# Altium schematic symbol library Capacitors-1206-Ceramic.SchLib: 12 symbols
Pins are listed as number, name and electrical type; pins without a type are passive.

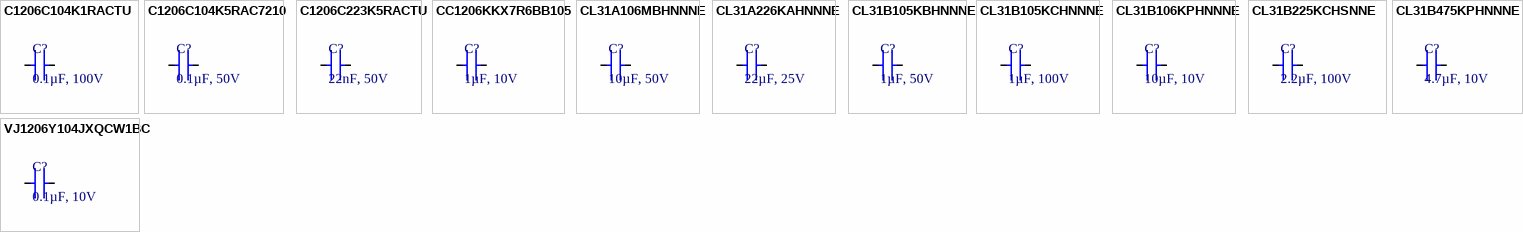
[diagram p0: symbols C1206C104K1RACTU to VJ1206Y104JXQCW1BC]

## C1206C104K1RACTU
designator C?, comment 0.1µF, 100V
CAP CER 0.1UF 100V X7R 1206; Manufacturer: KEMET; Manufacturer Part Number: C1206C104K1RACTU; Dielectric Material: Ceramic; Value: 100nF; Multilayer: Yes; Tolerance  (fill in as +-): 10%; Supplier: Digikey; Supplier Part Number: 399-C1206C104K1RACTUCT-ND; RoHS: Yes; Category: Ceramic Capacitors; Stock: 105073; Pricing: 1=0.23, 10=0.135, 50=0.0958, 100=0.0836, 500=0.0629, 1000=0.05646 (USD); Mounting Technology: Surface Mount; Pins: 2; Package Shape: Rectangular; Case/Package: 1206; Terminal Finish: Nickel; Min Operating Temperature: -55°C; Max Operating Temperature: 125°C; JESD-609 Code: e3; Capacitor Type: Ceramic; Package Style: SMTMeter; Packaging: Tape and Reel; Tolerance (fill in as +-): 10%; Rated DC Voltage (URdc): 100V; Temperature Characteristics Code: X7R; Termination: Wraparound; Length: 3.2mm; Width: 1.6mm; Height: 0.78mm; Reach SVHC Compliant: Yes; RoHS Compliant: Yes; ComponentLink1URL: https://datasheet.ciiva.com:443/pdfs/VipMasterIC/IC/KEME/KEME-S-A0008991654/KEME-S-A0008991654-1.pdf?src-supplier=IHS+Markit; ComponentLink1Description: https://datasheet.ciiva.com:443/pdfs/VipMasterIC/IC/KEME/KEME-S-A0008991654/KEME-S-A0008991654-1.pdf?src-supplier=IHS+Markit; ComponentLink2URL: https://datasheet.ciiva.com/18446/70095383-18446742.pdf?src-supplier=Allied+Electronics; ComponentLink2Description: https://datasheet.ciiva.com/18446/70095383-18446742.pdf?src-supplier=Allied+Electronics; ComponentLink3URL: https://datasheet.ciiva.com/14585/70095383-14585512.pdf?src-supplier=Allied+Electronics; ComponentLink3Description: https://datasheet.ciiva.com/14585/70095383-14585512.pdf?src-supplier=Allied+Electronics
footprint CAP-CER-1206
pins: 1, 2

## C1206C104K5RAC7210
designator C?, comment 0.1µF, 50V
CAP CER 0.1UF 50V X7R 1206; Manufacturer: KEMET; Manufacturer Part Number: C1206C104K5RAC7210; Dielectric Material: Ceramic; Value: 100nF; Multilayer: Yes; Tolerance  (fill in as +-): 10%; Supplier: Digikey; Supplier Part Number: 399-C1206C104K5RAC7210CT-ND; RoHS: Yes; Category: Ceramic Capacitors; Stock: 447868; Pricing: 1=0.1, 10=0.055, 50=0.0382, 100=0.0329, 500=0.02384, 1000=0.02105, 2500=0.01809, 5000=0.01629 (USD); Mounting Technology: Surface Mount; Pins: 2; Package Shape: Rectangular; Case/Package: 1206; Terminal Finish: Nickel; Min Operating Temperature: -55°C; Max Operating Temperature: 125°C; JESD-609 Code: e3; Capacitor Type: Ceramic; Package Style: SMTMeter; Packaging: Tape and Reel; Tolerance (fill in as +-): 10%; Rated DC Voltage (URdc): 50V; Temperature Characteristics Code: X7R; Termination: Wraparound; Length: 3.2mm; Width: 1.6mm; Height: 0.78mm; Reach SVHC Compliant: Yes; RoHS Compliant: Yes; ComponentLink1URL: https://datasheet.ciiva.com:443/pdfs/VipMasterIC/IC/KEME/KEME-S-A0008991654/KEME-S-A0008991654-1.pdf?src-supplier=IHS+Markit; ComponentLink1Description: https://datasheet.ciiva.com:443/pdfs/VipMasterIC/IC/KEME/KEME-S-A0008991654/KEME-S-A0008991654-1.pdf?src-supplier=IHS+Markit; ComponentLink2URL: https://datasheet.ciiva.com/18194/getdatasheetpartid-94372-18194154.pdf?src-supplier=Verical; ComponentLink2Description: https://datasheet.ciiva.com/18194/getdatasheetpartid-94372-18194154.pdf?src-supplier=Verical
footprint CAP-CER-1206
pins: 1, 2

## C1206C223K5RACTU
designator C?, comment 22nF, 50V
CAP CER 0.022UF 50V X7R 1206; Manufacturer: KEMET; Manufacturer Part Number: C1206C223K5RACTU; Dielectric Material: Ceramic; Multilayer: Yes; Tolerance  (fill in as +-): 10%; Supplier: Digikey; Supplier Part Number: 399-C1206C223K5RAC7800CT-ND; RoHS: Yes; Category: Ceramic Capacitors; Mounting Technology: Surface Mount; Pins: 2; Package Shape: Rectangular; Case/Package: 1206; Terminal Finish: Nickel; Min Operating Temperature: -55°C; Max Operating Temperature: 125°C; JESD-609 Code: e3; Value: 22nF; Capacitor Type: Ceramic; Package Style: SMTMeter; Packaging: Tape and Reel; Tolerance (fill in as +-): 10%; Rated DC Voltage (URdc): 50V; Temperature Characteristics Code: X7R; Termination: Wraparound; Length: 3.2mm; Width: 1.6mm; Height: 0.78mm; Reach SVHC Compliant: Yes; RoHS Compliant: Yes; ComponentLink1URL: https://datasheet.ciiva.com:443/pdfs/VipMasterIC/IC/KEME/KEME-S-A0008991654/KEME-S-A0008991654-1.pdf?src-supplier=IHS+Markit; ComponentLink1Description: https://datasheet.ciiva.com:443/pdfs/VipMasterIC/IC/KEME/KEME-S-A0008991654/KEME-S-A0008991654-1.pdf?src-supplier=IHS+Markit; ComponentLink2URL: https://datasheet.ciiva.com/7729/1851736-7729867.pdf?src-supplier=Element14; ComponentLink2Description: https://datasheet.ciiva.com/7729/1851736-7729867.pdf?src-supplier=Element14; ComponentLink3URL: https://datasheet.ciiva.com/28693/1851736-28693029.pdf?src-supplier=Element14; ComponentLink3Description: https://datasheet.ciiva.com/28693/1851736-28693029.pdf?src-supplier=Element14; ComponentLink4URL: https://datasheet.ciiva.com/6074/kem-c1002-x7r-smd-6074669.pdf?src-supplier=Farnell; ComponentLink4Description: https://datasheet.ciiva.com/6074/kem-c1002-x7r-smd-6074669.pdf?src-supplier=Farnell
footprint CAP-CER-1206
pins: 1, 2

## CC1206KKX7R6BB105
designator C?, comment 1µF, 10V
CAP CER 1UF 10V X7R 1206; Manufacturer: Yageo; Manufacturer Part Number: CC1206KKX7R6BB105; Dielectric Material: Ceramic; Multilayer: Yes; Tolerance  (fill in as +-): 10%; Supplier: Digikey; Supplier Part Number: 311-1951-1-ND; RoHS: Yes; Category: Ceramic Capacitors; Stock: 19006; Pricing: 1=0.23, 10=0.151, 50=0.1064, 100=0.0858, 500=0.06378, 1000=0.05581 (USD); Mounting Technology: Surface Mount; Pins: 2; Package Shape: Rectangular; Case/Package: 1206; Terminal Finish: Nickel; Min Operating Temperature: -55°C; Max Operating Temperature: 125°C; JESD-609 Code: e3; Value: 1uF; Capacitor Type: Ceramic; Package Style: SMTMeter; Packaging: Tape and Reel; Tolerance (fill in as +-): 10%; Rated DC Voltage (URdc): 10V; Temperature Characteristics Code: X7R; Termination: Wraparound; Length: 3.2mm; Width: 1.6mm; Height: 1.15mm; Reach SVHC Compliant: Yes; RoHS Compliant: Yes; ComponentLink1URL: https://datasheet.ciiva.com:443/pdfs/VipMasterIC/IC/YAGO/YAGO-S-A0003557223/YAGO-S-A0003557223-1.pdf?src-supplier=IHS+Markit; ComponentLink1Description: https://datasheet.ciiva.com:443/pdfs/VipMasterIC/IC/YAGO/YAGO-S-A0003557223/YAGO-S-A0003557223-1.pdf?src-supplier=IHS+Markit; ComponentLink2URL: https://datasheet.ciiva.com/26863/getdatasheetpartid-408469-26863081.pdf?src-supplier=Verical; ComponentLink2Description: https://datasheet.ciiva.com/26863/getdatasheetpartid-408469-26863081.pdf?src-supplier=Verical; ComponentLink3URL: https://datasheet.ciiva.com/11466/upy-gphc-x7r-6-3v-to-50v-8-11466566.pdf?src-supplier=Avnet; ComponentLink3Description: https://datasheet.ciiva.com/11466/upy-gphc-x7r-6-3v-to-50v-8-11466566.pdf?src-supplier=Avnet
footprint CAP-CER-1206
pins: 1, 2

## CL31A106MBHNNNE
designator C?, comment 10µF, 50V
CAP CER 10UF 50V X5R 1206; Manufacturer: Samsung; Manufacturer Part Number: CL31A106MBHNNNE; Dielectric Material: Ceramic; Multilayer: Yes; Tolerance  (fill in as +-): 20%; Supplier: Digikey; Supplier Part Number: 1276-6736-1-ND; RoHS: Yes; Category: Ceramic Capacitors; Mounting Technology: Surface Mount; Pins: 2; Package Shape: Rectangular; Case/Package: 1206; Terminal Finish: Nickel; Min Operating Temperature: -55°C; Max Operating Temperature: 85°C; JESD-609 Code: e3; Value: 10uF; Capacitor Type: Ceramic; Packaging: Tape and Reel; Tolerance (fill in as +-): 20%; Rated DC Voltage (URdc): 50V; Temperature Characteristics Code: X5R; Termination: Wraparound; Reach SVHC Compliant: Yes; RoHS Compliant: Yes; ComponentLink1URL: https://datasheet.ciiva.com:443/pdfs/VipMasterIC/IC/SEMS/SEMS-S-A0008524842/SEMS-S-A0008524608-1.pdf?src-supplier=IHS+Markit; ComponentLink1Description: https://datasheet.ciiva.com:443/pdfs/VipMasterIC/IC/SEMS/SEMS-S-A0008524842/SEMS-S-A0008524608-1.pdf?src-supplier=IHS+Markit; ComponentLink2URL: http://www.samsungsem.com/kr/support/product-search/mlcc/CL31A106MBHNNNE.jsp?src-supplier=Digikey; ComponentLink2Description: http://www.samsungsem.com/kr/support/product-search/mlcc/CL31A106MBHNNNE.jsp?src-supplier=Digikey; ComponentLink3URL: https://datasheet.octopart.com/CL31A106MBHNNNE-Samsung-Electro-Mechanics-datasheet-149066821.pdf?src-supplier=Future+Electronics; ComponentLink3Description: https://datasheet.octopart.com/CL31A106MBHNNNE-Samsung-Electro-Mechanics-datasheet-149066821.pdf?src-supplier=Future+Electronics
footprint CAP-CER-1206
pins: 1, 2

## CL31A226KAHNNNE
designator C?, comment 22µF, 25V
CAP CER 22UF 25V X5R 1206; Manufacturer: Samsung; Manufacturer Part Number: CL31A226KAHNNNE; Dielectric Material: Ceramic; Multilayer: Yes; Tolerance  (fill in as +-): 10%; Supplier: Digikey; Supplier Part Number: 1276-3047-1-ND; RoHS: Yes; Category: Ceramic Capacitors; Stock: 1049305; Pricing: 1=0.23, 10=0.093, 50=0.08, 100=0.0672, 500=0.0644, 1000=0.06218 (USD); Mounting Technology: Surface Mount; Pins: 2; Package Shape: Rectangular; Case/Package: 1206; Terminal Finish: Nickel; Min Operating Temperature: -55°C; Max Operating Temperature: 85°C; JESD-609 Code: e3; Value: 22uF; Capacitor Type: Ceramic; Package Style: SMTMeter; Packaging: Tape and Reel; Tolerance (fill in as +-): 10%; Rated DC Voltage (URdc): 25V; Temperature Characteristics Code: X5R; Termination: Wraparound; Length: 3.2mm; Width: 1.6mm; Height: 1.8mm; Reach SVHC Compliant: Yes; RoHS Compliant: Yes; ComponentLink1URL: https://datasheet.ciiva.com:443/pdfs/VipMasterIC/IC/SEMS/SEMS-S-A0008384515/SEMS-S-A0008873224-1.pdf?src-supplier=IHS+Markit; ComponentLink1Description: https://datasheet.ciiva.com:443/pdfs/VipMasterIC/IC/SEMS/SEMS-S-A0008384515/SEMS-S-A0008873224-1.pdf?src-supplier=IHS+Markit; ComponentLink2URL: https://datasheet.ciiva.com/25766/cl31a226kahnnne-25766608.pdf?src-supplier=Digikey; ComponentLink2Description: https://datasheet.ciiva.com/25766/cl31a226kahnnne-25766608.pdf?src-supplier=Digikey; ComponentLink3URL: https://datasheet.ciiva.com/16437/cl31a226kahnnne-16437213.pdf?src-supplier=Future+Electronics; ComponentLink3Description: https://datasheet.ciiva.com/16437/cl31a226kahnnne-16437213.pdf?src-supplier=Future+Electronics; ComponentLink4URL: https://datasheet.ciiva.com/26838/getdatasheetpartid-359658-26838860.pdf?src-supplier=Verical; ComponentLink4Description: https://datasheet.ciiva.com/26838/getdatasheetpartid-359658-26838860.pdf?src-supplier=Verical; ComponentLink5URL: https://datasheet.ciiva.com/29201/452249-da-01-en-vs-kondensator-1206-29201336.pdf?src-supplier=Conrad; ComponentLink5Description: https://datasheet.ciiva.com/29201/452249-da-01-en-vs-kondensator-1206-29201336.pdf?src-supplier=Conrad
footprint CAP-CER-1206
pins: 1, 2

## CL31B105KBHNNNE
designator C?, comment 1µF, 50V
CAP CER 1UF 50V X7R 1206; Manufacturer: Samsung; Manufacturer Part Number: CL31B105KBHNNNE; Dielectric Material: Ceramic; Multilayer: Yes; Tolerance  (fill in as +-): 10%; Supplier: Digikey; Supplier Part Number: 1276-1068-1-ND; RoHS: Yes; Category: Ceramic Capacitors; Stock: 87983; Pricing: 1=0.13, 10=0.074, 100=0.045, 1000=0.03005 (USD); Mounting Technology: Surface Mount; Pins: 2; Package Shape: Rectangular; Case/Package: 1206; Terminal Finish: Nickel; Min Operating Temperature: -55°C; Max Operating Temperature: 125°C; JESD-609 Code: e3; Value: 1uF; Capacitor Type: Ceramic; Package Style: SMTMeter; Packaging: Tape and Reel; Tolerance (fill in as +-): 10%; Rated DC Voltage (URdc): 50V; Temperature Characteristics Code: X7R; Termination: Wraparound; Length: 3.2mm; Width: 1.6mm; Height: 1.8mm; Reach SVHC Compliant: Yes; RoHS Compliant: Yes; ComponentLink1URL: https://datasheet.ciiva.com:443/pdfs/VipMasterIC/IC/SEMS/SEMS-S-A0008526420/SEMS-S-A0008525247-1.pdf?src-supplier=IHS+Markit; ComponentLink1Description: https://datasheet.ciiva.com:443/pdfs/VipMasterIC/IC/SEMS/SEMS-S-A0008526420/SEMS-S-A0008525247-1.pdf?src-supplier=IHS+Markit; ComponentLink2URL: https://datasheet.ciiva.com/25729/cl31b105kbhnnne-25729445.pdf?src-supplier=Digikey; ComponentLink2Description: https://datasheet.ciiva.com/25729/cl31b105kbhnnne-25729445.pdf?src-supplier=Digikey; ComponentLink3URL: https://datasheet.ciiva.com/16330/cl31b105kbhnnne-16330112.pdf?src-supplier=Future+Electronics; ComponentLink3Description: https://datasheet.ciiva.com/16330/cl31b105kbhnnne-16330112.pdf?src-supplier=Future+Electronics
footprint CAP-CER-1206
pins: 1, 2

## CL31B105KCHNNNE
designator C?, comment 1µF, 100V
CAP CER 1UF 100V X7R 1206; Manufacturer: Samsung; Manufacturer Part Number: CL31B105KCHNNNE; Dielectric Material: Ceramic; Multilayer: Yes; Tolerance  (fill in as +-): 10%; Supplier: Digikey; Supplier Part Number: 1276-1838-1-ND; RoHS: Yes; Category: Ceramic Capacitors; Stock: 385884; Pricing: 1=0.16, 10=0.091, 50=0.0634, 100=0.055, 500=0.04066, 1000=0.03621 (USD); Mounting Technology: Surface Mount; Pins: 2; Package Shape: Rectangular; Case/Package: 1206; Terminal Finish: Nickel; Min Operating Temperature: -55°C; Max Operating Temperature: 125°C; JESD-609 Code: e3; Value: 1uF; Capacitor Type: Ceramic; Package Style: SMTMeter; Packaging: Tape and Reel; Tolerance (fill in as +-): 10%; Rated DC Voltage (URdc): 100V; Temperature Characteristics Code: X7R; Termination: Wraparound; Length: 3.2mm; Width: 1.6mm; Height: 1.6mm; Reach SVHC Compliant: Yes; RoHS Compliant: Yes; ComponentLink1URL: https://datasheet.ciiva.com:443/pdfs/VipMasterIC/IC/SEMS/SEMS-S-A0008524868/SEMS-S-A0008525032-1.pdf?src-supplier=IHS+Markit; ComponentLink1Description: https://datasheet.ciiva.com:443/pdfs/VipMasterIC/IC/SEMS/SEMS-S-A0008524868/SEMS-S-A0008525032-1.pdf?src-supplier=IHS+Markit; ComponentLink2URL: https://datasheet.ciiva.com/25711/cl31b105kchnnne-25711248.pdf?src-supplier=Digikey; ComponentLink2Description: https://datasheet.ciiva.com/25711/cl31b105kchnnne-25711248.pdf?src-supplier=Digikey; ComponentLink3URL: https://datasheet.ciiva.com/16437/clseries-16437207.pdf?src-supplier=Future+Electronics; ComponentLink3Description: https://datasheet.ciiva.com/16437/clseries-16437207.pdf?src-supplier=Future+Electronics
footprint CAP-CER-1206
pins: 1, 2

## CL31B106KPHNNNE
designator C?, comment 10µF, 10V
CAP CER 10UF 10V X7R 1206; Manufacturer: Samsung; Manufacturer Part Number: CL31B106KPHNNNE; Dielectric Material: Ceramic; Multilayer: Yes; Tolerance  (fill in as +-): 10%; Supplier: Digikey; Supplier Part Number: 1276-1311-1-ND; RoHS: Yes; Category: Ceramic Capacitors; Stock: 204329; Pricing: 1=0.22, 10=0.126, 50=0.0888, 100=0.0773, 500=0.05798, 1000=0.05196 (USD); Mounting Technology: Surface Mount; Pins: 2; Package Shape: Rectangular; Case/Package: 1206; Terminal Finish: Nickel; Min Operating Temperature: -55°C; Max Operating Temperature: 125°C; JESD-609 Code: e3; Value: 10uF; Capacitor Type: Ceramic; Package Style: SMTMeter; Packaging: Tape and Reel; Tolerance (fill in as +-): 10%; Rated DC Voltage (URdc): 10V; Temperature Characteristics Code: X7R; Termination: Wraparound; Length: 3.2mm; Width: 1.6mm; Height: 1.8mm; Reach SVHC Compliant: Yes; RoHS Compliant: Yes; ComponentLink1URL: https://datasheet.ciiva.com:443/pdfs/VipMasterIC/IC/SEMS/SEMS-S-A0008524842/SEMS-S-A0008524858-1.pdf?src-supplier=IHS+Markit; ComponentLink1Description: https://datasheet.ciiva.com:443/pdfs/VipMasterIC/IC/SEMS/SEMS-S-A0008524842/SEMS-S-A0008524858-1.pdf?src-supplier=IHS+Markit; ComponentLink2URL: https://datasheet.ciiva.com/25795/cl31b106kphnnne-25795251.pdf?src-supplier=Digikey; ComponentLink2Description: https://datasheet.ciiva.com/25795/cl31b106kphnnne-25795251.pdf?src-supplier=Digikey; ComponentLink3URL: https://datasheet.ciiva.com/26946/getdatasheetpartid-359660-26946996.pdf?src-supplier=Verical; ComponentLink3Description: https://datasheet.ciiva.com/26946/getdatasheetpartid-359660-26946996.pdf?src-supplier=Verical
footprint CAP-CER-1206
pins: 1, 2

## CL31B225KCHSNNE
designator C?, comment 2.2µF, 100V
CAP CER 2.2UF 100V X7R 1206; Manufacturer: Samsung; Manufacturer Part Number: CL31B225KCHSNNE; Dielectric Material: Ceramic; Multilayer: Yes; Tolerance  (fill in as +-): 10%; Supplier: Digikey; Supplier Part Number: 1276-3138-1-ND; RoHS: Yes; Category: Ceramic Capacitors; Stock: 134523; Pricing: 1=0.48, 10=0.287, 50=0.2088, 100=0.1845, 500=0.14336, 1000=0.1305 (USD); Mounting Technology: Surface Mount; Pins: 2; Package Shape: Rectangular; Case/Package: 1206; Terminal Finish: Nickel; Min Operating Temperature: -55°C; Max Operating Temperature: 125°C; JESD-609 Code: e3; Value: 2.2uF; Capacitor Type: Ceramic; Packaging: Tape and Reel; Tolerance (fill in as +-): 10%; Rated DC Voltage (URdc): 100V; Temperature Characteristics Code: X7R; Termination: Wraparound; Reach SVHC Compliant: Yes; RoHS Compliant: Yes; ComponentLink1URL: https://datasheet.ciiva.com:443/pdfs/VipMasterIC/IC/SEMS/SEMS-S-A0008525088/SEMS-S-A0008525193-1.pdf?src-supplier=IHS+Markit; ComponentLink1Description: https://datasheet.ciiva.com:443/pdfs/VipMasterIC/IC/SEMS/SEMS-S-A0008525088/SEMS-S-A0008525193-1.pdf?src-supplier=IHS+Markit; ComponentLink2URL: https://datasheet.ciiva.com/25711/cl31b225kchsnne-25711499.pdf?src-supplier=Digikey; ComponentLink2Description: https://datasheet.ciiva.com/25711/cl31b225kchsnne-25711499.pdf?src-supplier=Digikey; ComponentLink3URL: https://datasheet.ciiva.com/29200/453036-da-01-en-vs-kondensator-1206-29200657.pdf?src-supplier=Conrad; ComponentLink3Description: https://datasheet.ciiva.com/29200/453036-da-01-en-vs-kondensator-1206-29200657.pdf?src-supplier=Conrad
footprint CAP-CER-1206
pins: 1, 2

## CL31B475KPHNNNE
designator C?, comment 4.7µF, 10V
CAP CER 4.7UF 10V X7R 1206; Manufacturer: Samsung; Manufacturer Part Number: CL31B475KPHNNNE; Dielectric Material: Ceramic; Multilayer: Yes; Tolerance  (fill in as +-): 10%; Supplier: Digikey; Supplier Part Number: 1276-1133-1-ND; RoHS: Yes; Category: Ceramic Capacitors; Stock: 154674; Pricing: 1=0.19, 10=0.107, 50=0.0754, 100=0.0655, 500=0.04882, 1000=0.04361 (USD); Mounting Technology: Surface Mount; Pins: 2; Package Shape: Rectangular; Case/Package: 1206; Terminal Finish: Nickel; Min Operating Temperature: -55°C; Max Operating Temperature: 125°C; JESD-609 Code: e3; Value: 4.7uF; Capacitor Type: Ceramic; Package Style: SMTMeter; Packaging: Tape and Reel; Tolerance (fill in as +-): 10%; Rated DC Voltage (URdc): 10V; Temperature Characteristics Code: X7R; Termination: Wraparound; Length: 3.2mm; Width: 1.6mm; Height: 1.8mm; Reach SVHC Compliant: Yes; RoHS Compliant: Yes; ComponentLink1URL: https://datasheet.ciiva.com:443/pdfs/VipMasterIC/IC/SEMS/SEMS-S-A0008522756/SEMS-S-A0008522702-1.pdf?src-supplier=IHS+Markit; ComponentLink1Description: https://datasheet.ciiva.com:443/pdfs/VipMasterIC/IC/SEMS/SEMS-S-A0008522756/SEMS-S-A0008522702-1.pdf?src-supplier=IHS+Markit; ComponentLink2URL: https://datasheet.ciiva.com/25795/cl31b475kphnnne-25795716.pdf?src-supplier=Digikey; ComponentLink2Description: https://datasheet.ciiva.com/25795/cl31b475kphnnne-25795716.pdf?src-supplier=Digikey; ComponentLink3URL: https://datasheet.ciiva.com/15196/getdatasheetpartid-355347-15196065.pdf?src-supplier=Verical; ComponentLink3Description: https://datasheet.ciiva.com/15196/getdatasheetpartid-355347-15196065.pdf?src-supplier=Verical; ComponentLink4URL: https://datasheet.ciiva.com/29200/452823-da-01-en-vs-kondensator-1206-29200920.pdf?src-supplier=Conrad; ComponentLink4Description: https://datasheet.ciiva.com/29200/452823-da-01-en-vs-kondensator-1206-29200920.pdf?src-supplier=Conrad
footprint CAP-CER-1206
pins: 1, 2

## VJ1206Y104JXQCW1BC
designator C?, comment 0.1µF, 10V
CAP CER 0.1UF 10V X7R 1206; Manufacturer: Vishay Vitramon; Manufacturer Part Number: VJ1206Y104JXQCW1BC; Manufacturer Series: VJ; Dielectric Material: Ceramic; Value: 100nF; Multilayer: Yes; Tolerance  (fill in as +-): 5%; Supplier: Digikey; Supplier Part Number: 720-VJ1206Y104JXQCW1BCCT-ND; RoHS: Yes; Category: Ceramic Capacitors; Stock: 2598; Pricing: 1=0.29, 10=0.188, 50=0.1386, 100=0.1129, 500=0.08914, 1000=0.07527 (USD); Mounting Technology: Surface Mount; Pins: 2; Package Shape: Rectangular; Case/Package: 1206; Terminal Finish: Tin; Min Operating Temperature: -55°C; Max Operating Temperature: 125°C; JESD-609 Code: e3; Capacitor Type: Ceramic; Packaging: Tape and Reel; Tolerance (fill in as +-): 5%; Rated DC Voltage (URdc): 10V; Temperature Characteristics Code: X7R; Termination: Wraparound; Reach SVHC Compliant: Yes; RoHS Compliant: Yes; ComponentLink1URL: https://datasheet.ciiva.com:443/pdfs/VipMasterIC/IC/BEYS/BEYSS01735/BEYSS01735-1.pdf?src-supplier=IHS+Markit; ComponentLink1Description: https://datasheet.ciiva.com:443/pdfs/VipMasterIC/IC/BEYS/BEYSS01735/BEYSS01735-1.pdf?src-supplier=IHS+Markit; ComponentLink2URL: https://datasheet.ciiva.com/11492/vjw1bcbascomseries-11492041.pdf?src-supplier=Avnet; ComponentLink2Description: https://datasheet.ciiva.com/11492/vjw1bcbascomseries-11492041.pdf?src-supplier=Avnet
footprint CAP-CER-1206
pins: 1, 2